# EAGLE library part 218-06 (library switch-dil)
DIP SWITCH
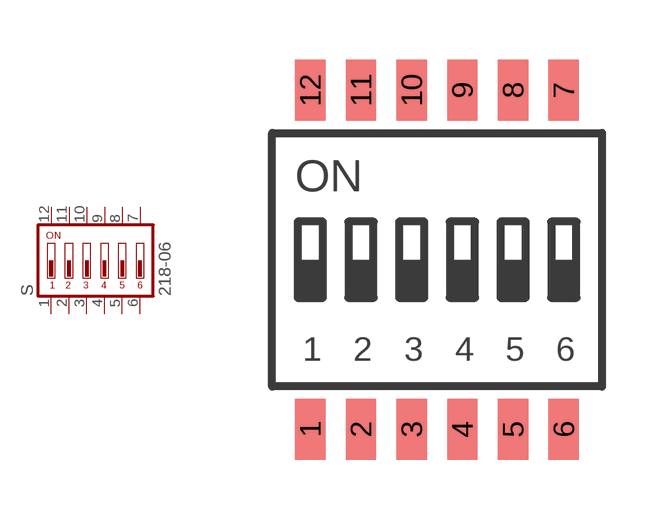
[diagram p66: symbol with the pads of 218-06; footprint 218-06]

Designator prefix S

## 218-06  [218-06]
1  1  pas
2  2  pas
3  3  pas
4  4  pas
5  5  pas
6  6  pas
7  7  pas
8  8  pas
9  9  pas
10  10  pas
11  11  pas
12  12  pas

## Footprint 218-06 (pad centres in mm)
CTS SERIES 218LP - Gull Wing Terminal
smd 0.762 x 1.524: 1 -3.175,-4.245; 2 -1.905,-4.245; 3 -0.635,-4.245; 4 0.635,-4.245; 5 1.905,-4.245; 6 3.175,-4.245; 7 3.175,4.245; 8 1.905,4.245; 9 0.635,4.245; 10 -0.635,4.245; 11 -1.905,4.245; 12 -3.175,4.245